# Altium schematic symbol library BC856.SchLib: 1 symbol
Pins are listed as number, name and electrical type; pins without a type are passive.

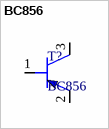
[diagram p0: symbol BC856]

## BC856
designator T?
PNP transistor 65 V, 100 mA, 150 MHz; Потребление, Вт: 0; Назначение: PNP transistor 65 V, 100 mA, 150 MHz; Наименование: BC856; ComponentLink1Description: Datasheet; ComponentLink1URL: https://static.chipdip.ru/lib/225/DOC042225596.pdf
footprint SOT-23
pins: 1 BASE, 2 EMITTER, 3 COLLECTOR